# EAGLE library part MOLEX_503772/6 (library ck)
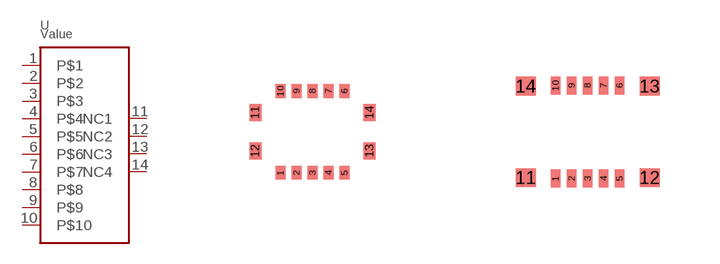
[diagram p19: symbol with the pads of MOLEX_503776_PLUG; footprints MOLEX_503776_PLUG, MOLEX_503772_REC]

Designator prefix U

## MOLEX_503772/6PLUG  [MOLEX_503776_PLUG]
1  P$1
2  P$2
3  P$3
4  P$4
5  P$5
6  P$6
7  P$7
8  P$8
9  P$9
10  P$10
11  NC1
12  NC2
13  NC3
14  NC4

## MOLEX_503772/6REC  [MOLEX_503772_REC]
Pads as for MOLEX_503776_PLUG

## Footprint MOLEX_503776_PLUG (pad centres in mm)
smd 0.24 x 0.35: 1 0,0; 2 0.4,0; 3 0.8,0; 4 1.2,0; 5 1.6,0; 6 1.6,2.05; 7 1.2,2.05; 8 0.8,2.05; 9 0.4,2.05; 10 0,2.05
smd 0.3 x 0.42: 11 -0.63,1.505; 12 -0.63,0.545; 13 2.23,0.545; 14 2.23,1.505

## Footprint MOLEX_503772_REC (pad centres in mm)
smd 0.24 x 0.45: 1 0.75,-0.02; 2 1.15,-0.02; 3 1.55,-0.02; 4 1.95,-0.02; 5 2.35,-0.02; 6 2.35,2.31; 7 1.95,2.31; 8 1.55,2.31; 9 1.15,2.31; 10 0.75,2.31
smd 0.5 x 0.47: 11 0,0; 12 3.1,0; 13 3.1,2.29; 14 0,2.29